# Altium integrated library TI Microcontroller MSP430 16-bit Ultra-Low Power.IntLib: 1463 symbols (part 2 of 130)
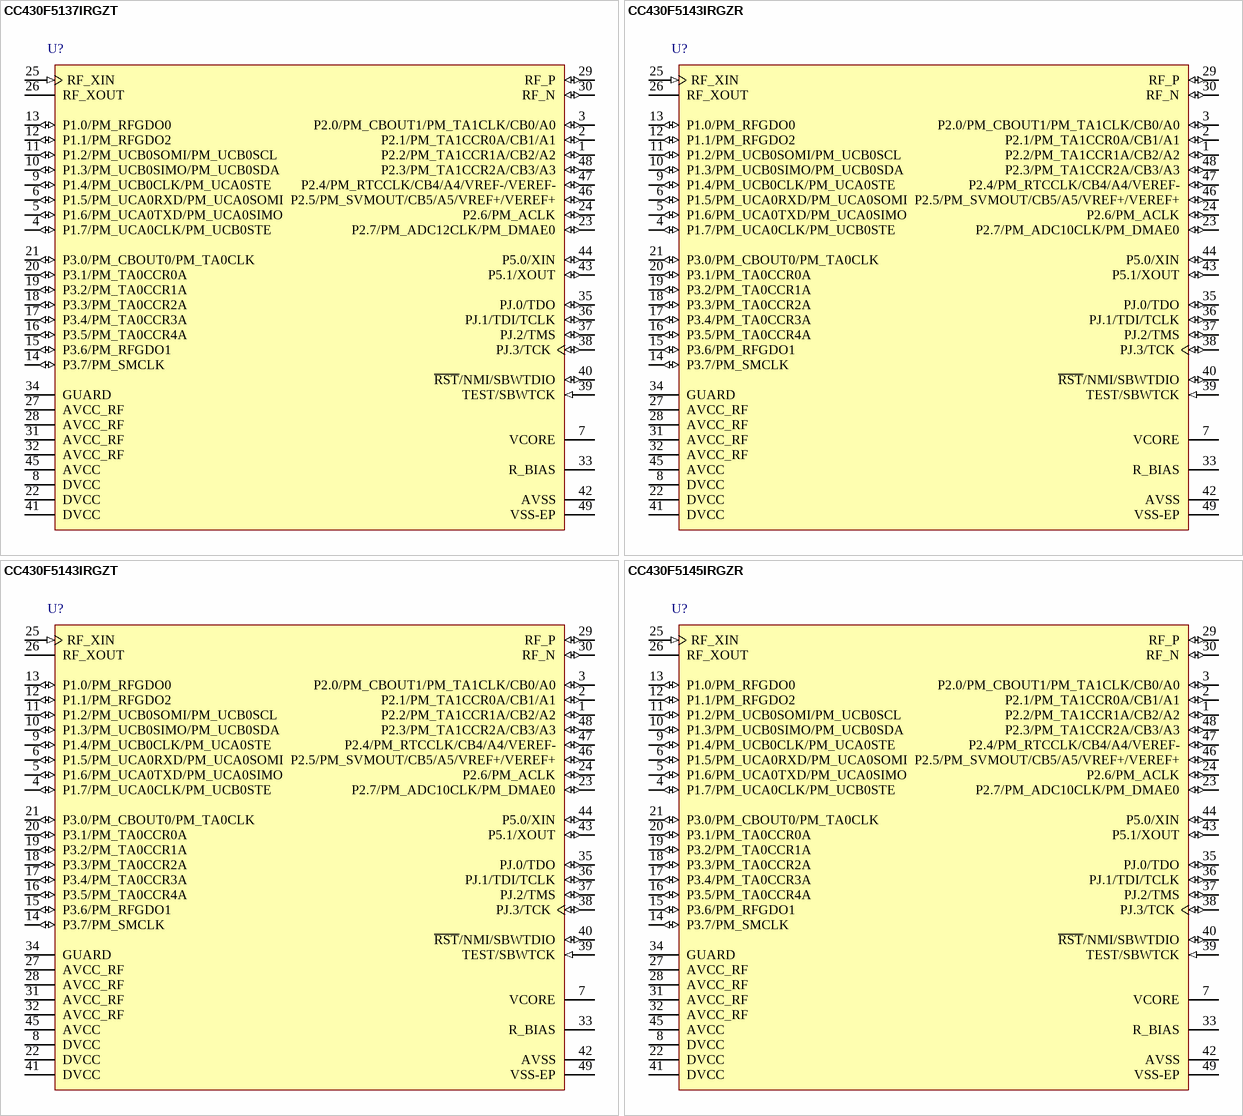
[diagram p104: symbols CC430F5137IRGZT to CC430F5145IRGZR]

## CC430F5143IRGZT
designator U?
20 MHz MSP430 SoC with RF Core with 8 KB Flash, 2048 B SRAM and 30 GPIOs, -40 to 85 degC, 48-pin QFN (RGZ), Green (RoHS & no Sb/Br); Manufacturer: Texas Instruments; PartNumber: CC430F5143IRGZT; ADC: Yes; ADC Channels: 6; DMA: 3; Flash(KB): 8; Frequency(MHz): 20; GPIO: 30; Multiplier: 32x32; SRAM(B): 2048; SubFamily: RF SoC Series; Timers - 16-bit: 2; USCI_A (UART/LIN/IrDA/SPI): 1; DatasheetVersion: SLAS555; PackageVersion: 4204101/F; PackageReference: RGZ48-4100X4100TP; PackageDescription: 48-Pin Plastic Flat Pack, Body 7 x 7 mm, Pitch 0.5 mm; Supplier 1: Digi-Key; Supplier Part Number 1: CC430F5143IRGZT-ND; Supplier 2: Newark; Supplier Part Number 2: 27W9342; Supplier 3: Mouser; Supplier Part Number 3: 595-CC430F5143IRGZT; Brown Out Reset: Yes; Comparators: Yes; Eco-Plan: Green (RoHS & no Sb/Br); Real-Time Clock: Yes; SVS: Yes; Temp Sensor: Yes; USCI_B (I2C & SPI): 1; Watchdog: Yes; Mounting Technology: Surface Mount; Code_JEDEC: MO-220; ComponentLink1Description: Manufacturer URL; ComponentLink1URL: http://www.ti.com/; ComponentLink2Description: Datasheet; ComponentLink2URL: http://www.ti.com/lit/ds/symlink/cc430f5143.pdf; ComponentLink3Description: Package Specification; ComponentLink3URL: http://www.ti.com/lit/ds/symlink/sn75dp139.pdf
footprint TI-RGZ48-4100X4100TP_N (QFN, 48-Leads, Body 7x7mm, Pitch 0.5mm, Thermal Pad 4.1x4.1mm, IPC Medium Density)
pins: 1 P2.2/PM_TA1CCR1A/CB2/A2 (io), 2 P2.1/PM_TA1CCR0A/CB1/A1 (io), 3 P2.0/PM_CBOUT1/PM_TA1CLK/CB0/A0 (io), 4 P1.7/PM_UCA0CLK/PM_UCB0STE (io), 5 P1.6/PM_UCA0TXD/PM_UCA0SIMO (io), 6 P1.5/PM_UCA0RXD/PM_UCA0SOMI (io), 7 VCORE "Regulated core power supply", 8 DVCC (power) "Digital power supply", 9 P1.4/PM_UCB0CLK/PM_UCA0STE (io), 10 P1.3/PM_UCB0SIMO/PM_UCB0SDA (io), 11 P1.2/PM_UCB0SOMI/PM_UCB0SCL (io), 12 P1.1/PM_RFGDO2 (io), 13 P1.0/PM_RFGDO0 (io), 14 P3.7/PM_SMCLK (io), 15 P3.6/PM_RFGDO1 (io), 16 P3.5/PM_TA0CCR4A (io), 17 P3.4/PM_TA0CCR3A (io), 18 P3.3/PM_TA0CCR2A (io), 19 P3.2/PM_TA0CCR1A (io), 20 P3.1/PM_TA0CCR0A (io), 21 P3.0/PM_CBOUT0/PM_TA0CLK (io), 22 DVCC (power) "Digital power supply", 23 P2.7/PM_ADC10CLK/PM_DMAE0 (io), 24 P2.6/PM_ACLK (io), 25 RF_XIN (in) "Input terminal for RF crystal oscillator, or external clock input", 26 RF_XOUT "Output terminal for RF crystal oscillator", 27 AVCC_RF (power) "Radio analog power supply", 28 AVCC_RF (power) "Radio analog power supply", 29 RF_P (io) "Positive RF input to LNA in receive mode Positive RF output from PA in transmit mode", 30 RF_N (io) "Negative RF input to LNA in receive mode Negative RF output from PA in transmit mode", 31 AVCC_RF (power) "Radio analog power supply", 32 AVCC_RF (power) "Radio analog power supply", 33 R_BIAS "External bias resistor for radio reference current", 34 GUARD (power) "Power supply connection for digital noise isolation", 35 PJ.0/TDO (io), 36 PJ.1/TDI/TCLK (io), 37 PJ.2/TMS (io), 38 PJ.3/TCK (io), 39 TEST/SBWTCK (in), 40 ~{RST}/NMI/SBWTDIO (io), 41 DVCC (power) "Digital power supply", 42 AVSS (power) "Analog ground supply for ADC10", 43 P5.1/XOUT (io), 44 P5.0/XIN (io), 45 AVCC (power) "Analog power supply", 46 P2.5/PM_SVMOUT/CB5/A5/VREF+/VEREF+ (io), 47 P2.4/PM_RTCCLK/CB4/A4/VEREF- (io), 48 P2.3/PM_TA1CCR2A/CB3/A3 (io), 49 VSS-EP "Ground supply The exposed die attach pad must be connected to a solid ground plane as this is the ground connection for the chip."

## CC430F5145IRGZR
designator U?
20 MHz MSP430 SoC with RF Core with 16 KB Flash, 2048 B SRAM and 30 GPIOs, -40 to 85 degC, 48-pin QFN (RGZ), Green (RoHS & no Sb/Br); Manufacturer: Texas Instruments; PartNumber: CC430F5145IRGZR; ADC: Yes; ADC Channels: 6; DMA: 3; Flash(KB): 16; Frequency(MHz): 20; GPIO: 30; Multiplier: 32x32; SRAM(B): 2048; SubFamily: RF SoC Series; Timers - 16-bit: 2; USCI_A (UART/LIN/IrDA/SPI): 1; DatasheetVersion: SLAS555; PackageVersion: 4204101/F; PackageReference: RGZ48-4100X4100TP; PackageDescription: 48-Pin Plastic Flat Pack, Body 7 x 7 mm, Pitch 0.5 mm; Supplier 1: Digi-Key; Supplier Part Number 1: CC430F5145IRGZR-ND; Supplier 2: Newark; Supplier Part Number 2: 27W9343; Supplier 3: Mouser; Supplier Part Number 3: 595-CC430F5145IRGZR; Brown Out Reset: Yes; Comparators: Yes; Eco-Plan: Green (RoHS & no Sb/Br); Real-Time Clock: Yes; SVS: Yes; Temp Sensor: Yes; USCI_B (I2C & SPI): 1; Watchdog: Yes; Mounting Technology: Surface Mount; Code_JEDEC: MO-220; ComponentLink1Description: Manufacturer URL; ComponentLink1URL: http://www.ti.com/; ComponentLink2Description: Datasheet; ComponentLink2URL: http://www.ti.com/lit/ds/symlink/cc430f5145.pdf; ComponentLink3Description: Package Specification; ComponentLink3URL: http://www.ti.com/lit/ds/symlink/sn75dp139.pdf
footprint TI-RGZ48-4100X4100TP_N (QFN, 48-Leads, Body 7x7mm, Pitch 0.5mm, Thermal Pad 4.1x4.1mm, IPC Medium Density)
pins: 1 P2.2/PM_TA1CCR1A/CB2/A2 (io), 2 P2.1/PM_TA1CCR0A/CB1/A1 (io), 3 P2.0/PM_CBOUT1/PM_TA1CLK/CB0/A0 (io), 4 P1.7/PM_UCA0CLK/PM_UCB0STE (io), 5 P1.6/PM_UCA0TXD/PM_UCA0SIMO (io), 6 P1.5/PM_UCA0RXD/PM_UCA0SOMI (io), 7 VCORE "Regulated core power supply", 8 DVCC (power) "Digital power supply", 9 P1.4/PM_UCB0CLK/PM_UCA0STE (io), 10 P1.3/PM_UCB0SIMO/PM_UCB0SDA (io), 11 P1.2/PM_UCB0SOMI/PM_UCB0SCL (io), 12 P1.1/PM_RFGDO2 (io), 13 P1.0/PM_RFGDO0 (io), 14 P3.7/PM_SMCLK (io), 15 P3.6/PM_RFGDO1 (io), 16 P3.5/PM_TA0CCR4A (io), 17 P3.4/PM_TA0CCR3A (io), 18 P3.3/PM_TA0CCR2A (io), 19 P3.2/PM_TA0CCR1A (io), 20 P3.1/PM_TA0CCR0A (io), 21 P3.0/PM_CBOUT0/PM_TA0CLK (io), 22 DVCC (power) "Digital power supply", 23 P2.7/PM_ADC10CLK/PM_DMAE0 (io), 24 P2.6/PM_ACLK (io), 25 RF_XIN (in) "Input terminal for RF crystal oscillator, or external clock input", 26 RF_XOUT "Output terminal for RF crystal oscillator", 27 AVCC_RF (power) "Radio analog power supply", 28 AVCC_RF (power) "Radio analog power supply", 29 RF_P (io) "Positive RF input to LNA in receive mode Positive RF output from PA in transmit mode", 30 RF_N (io) "Negative RF input to LNA in receive mode Negative RF output from PA in transmit mode", 31 AVCC_RF (power) "Radio analog power supply", 32 AVCC_RF (power) "Radio analog power supply", 33 R_BIAS "External bias resistor for radio reference current", 34 GUARD (power) "Power supply connection for digital noise isolation", 35 PJ.0/TDO (io), 36 PJ.1/TDI/TCLK (io), 37 PJ.2/TMS (io), 38 PJ.3/TCK (io), 39 TEST/SBWTCK (in), 40 ~{RST}/NMI/SBWTDIO (io), 41 DVCC (power) "Digital power supply", 42 AVSS (power) "Analog ground supply for ADC10", 43 P5.1/XOUT (io), 44 P5.0/XIN (io), 45 AVCC (power) "Analog power supply", 46 P2.5/PM_SVMOUT/CB5/A5/VREF+/VEREF+ (io), 47 P2.4/PM_RTCCLK/CB4/A4/VEREF- (io), 48 P2.3/PM_TA1CCR2A/CB3/A3 (io), 49 VSS-EP "Ground supply The exposed die attach pad must be connected to a solid ground plane as this is the ground connection for the chip."

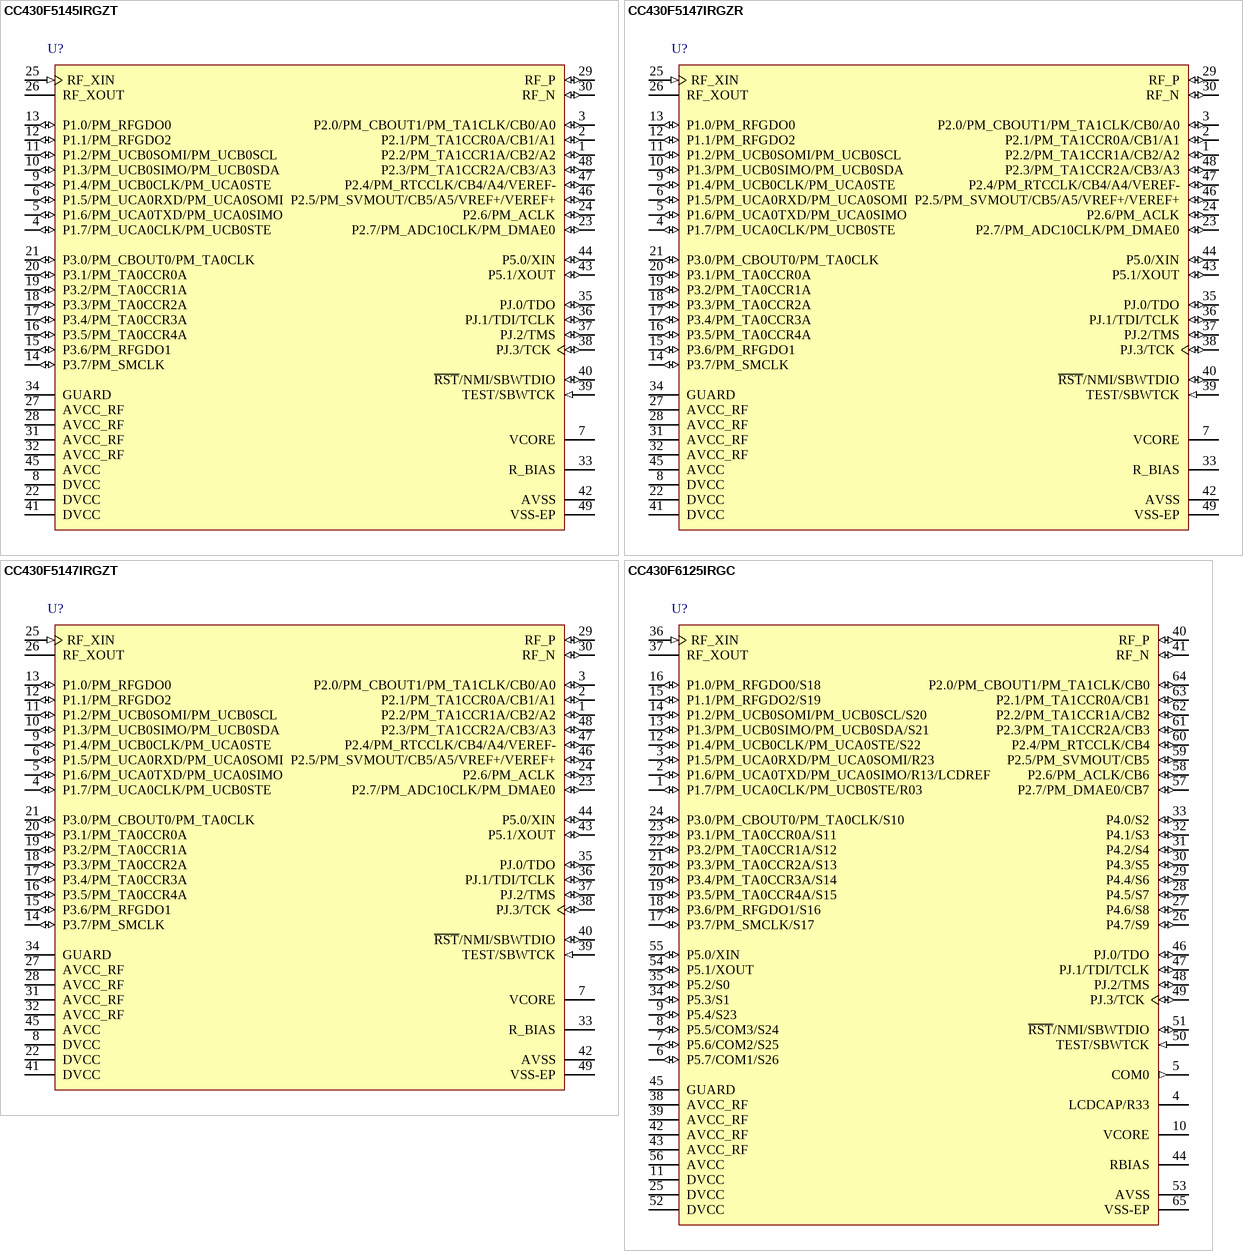
[diagram p4: symbols CC430F5145IRGZT to CC430F6125IRGC]

## CC430F5145IRGZT
designator U?
20 MHz MSP430 SoC with RF Core with 16 KB Flash, 2048 B SRAM and 30 GPIOs, -40 to 85 degC, 48-pin QFN (RGZ), Green (RoHS & no Sb/Br); Manufacturer: Texas Instruments; PartNumber: CC430F5145IRGZT; ADC: Yes; ADC Channels: 6; DMA: 3; Flash(KB): 16; Frequency(MHz): 20; GPIO: 30; Multiplier: 32x32; SRAM(B): 2048; SubFamily: RF SoC Series; Timers - 16-bit: 2; USCI_A (UART/LIN/IrDA/SPI): 1; DatasheetVersion: SLAS555; PackageVersion: 4204101/F; PackageReference: RGZ48-4100X4100TP; PackageDescription: 48-Pin Plastic Flat Pack, Body 7 x 7 mm, Pitch 0.5 mm; Supplier 1: Digi-Key; Supplier Part Number 1: CC430F5145IRGZT-ND; Supplier 2: Newark; Supplier Part Number 2: 27W9344; Supplier 3: Mouser; Supplier Part Number 3: 595-CC430F5145IRGZT; Brown Out Reset: Yes; Comparators: Yes; Eco-Plan: Green (RoHS & no Sb/Br); Real-Time Clock: Yes; SVS: Yes; Temp Sensor: Yes; USCI_B (I2C & SPI): 1; Watchdog: Yes; Mounting Technology: Surface Mount; Code_JEDEC: MO-220; ComponentLink1Description: Manufacturer URL; ComponentLink1URL: http://www.ti.com/; ComponentLink2Description: Datasheet; ComponentLink2URL: http://www.ti.com/lit/ds/symlink/cc430f5145.pdf; ComponentLink3Description: Package Specification; ComponentLink3URL: http://www.ti.com/lit/ds/symlink/sn75dp139.pdf
footprint TI-RGZ48-4100X4100TP_N (QFN, 48-Leads, Body 7x7mm, Pitch 0.5mm, Thermal Pad 4.1x4.1mm, IPC Medium Density)
pins: 1 P2.2/PM_TA1CCR1A/CB2/A2 (io), 2 P2.1/PM_TA1CCR0A/CB1/A1 (io), 3 P2.0/PM_CBOUT1/PM_TA1CLK/CB0/A0 (io), 4 P1.7/PM_UCA0CLK/PM_UCB0STE (io), 5 P1.6/PM_UCA0TXD/PM_UCA0SIMO (io), 6 P1.5/PM_UCA0RXD/PM_UCA0SOMI (io), 7 VCORE "Regulated core power supply", 8 DVCC (power) "Digital power supply", 9 P1.4/PM_UCB0CLK/PM_UCA0STE (io), 10 P1.3/PM_UCB0SIMO/PM_UCB0SDA (io), 11 P1.2/PM_UCB0SOMI/PM_UCB0SCL (io), 12 P1.1/PM_RFGDO2 (io), 13 P1.0/PM_RFGDO0 (io), 14 P3.7/PM_SMCLK (io), 15 P3.6/PM_RFGDO1 (io), 16 P3.5/PM_TA0CCR4A (io), 17 P3.4/PM_TA0CCR3A (io), 18 P3.3/PM_TA0CCR2A (io), 19 P3.2/PM_TA0CCR1A (io), 20 P3.1/PM_TA0CCR0A (io), 21 P3.0/PM_CBOUT0/PM_TA0CLK (io), 22 DVCC (power) "Digital power supply", 23 P2.7/PM_ADC10CLK/PM_DMAE0 (io), 24 P2.6/PM_ACLK (io), 25 RF_XIN (in) "Input terminal for RF crystal oscillator, or external clock input", 26 RF_XOUT "Output terminal for RF crystal oscillator", 27 AVCC_RF (power) "Radio analog power supply", 28 AVCC_RF (power) "Radio analog power supply", 29 RF_P (io) "Positive RF input to LNA in receive mode Positive RF output from PA in transmit mode", 30 RF_N (io) "Negative RF input to LNA in receive mode Negative RF output from PA in transmit mode", 31 AVCC_RF (power) "Radio analog power supply", 32 AVCC_RF (power) "Radio analog power supply", 33 R_BIAS "External bias resistor for radio reference current", 34 GUARD (power) "Power supply connection for digital noise isolation", 35 PJ.0/TDO (io), 36 PJ.1/TDI/TCLK (io), 37 PJ.2/TMS (io), 38 PJ.3/TCK (io), 39 TEST/SBWTCK (in), 40 ~{RST}/NMI/SBWTDIO (io), 41 DVCC (power) "Digital power supply", 42 AVSS (power) "Analog ground supply for ADC10", 43 P5.1/XOUT (io), 44 P5.0/XIN (io), 45 AVCC (power) "Analog power supply", 46 P2.5/PM_SVMOUT/CB5/A5/VREF+/VEREF+ (io), 47 P2.4/PM_RTCCLK/CB4/A4/VEREF- (io), 48 P2.3/PM_TA1CCR2A/CB3/A3 (io), 49 VSS-EP "Ground supply The exposed die attach pad must be connected to a solid ground plane as this is the ground connection for the chip."

## CC430F5147IRGZR
designator U?
20 MHz MSP430 SoC with RF Core with 32 KB Flash, 4096 B SRAM and 30 GPIOs, -40 to 85 degC, 48-pin QFN (RGZ), Green (RoHS & no Sb/Br); Manufacturer: Texas Instruments; PartNumber: CC430F5147IRGZR; ADC: Yes; ADC Channels: 6; DMA: 3; Flash(KB): 32; Frequency(MHz): 20; GPIO: 30; Multiplier: 32x32; SRAM(B): 4096; SubFamily: RF SoC Series; Timers - 16-bit: 2; USCI_A (UART/LIN/IrDA/SPI): 1; DatasheetVersion: SLAS555; PackageVersion: 4204101/F; PackageReference: RGZ48-4100X4100TP; PackageDescription: 48-Pin Plastic Flat Pack, Body 7 x 7 mm, Pitch 0.5 mm; Supplier 1: Digi-Key; Supplier Part Number 1: CC430F5147IRGZR-ND; Supplier 2: Newark; Supplier Part Number 2: 94T0503; Supplier 3: Mouser; Supplier Part Number 3: 595-CC430F5147IRGZR; Brown Out Reset: Yes; Comparators: Yes; Eco-Plan: Green (RoHS & no Sb/Br); Real-Time Clock: Yes; SVS: Yes; Temp Sensor: Yes; USCI_B (I2C & SPI): 1; Watchdog: Yes; Mounting Technology: Surface Mount; Code_JEDEC: MO-220; ComponentLink1Description: Manufacturer URL; ComponentLink1URL: http://www.ti.com/; ComponentLink2Description: Datasheet; ComponentLink2URL: http://www.ti.com/lit/ds/symlink/cc430f5147.pdf; ComponentLink3Description: Package Specification; ComponentLink3URL: http://www.ti.com/lit/ds/symlink/sn75dp139.pdf
footprint TI-RGZ48-4100X4100TP_N (QFN, 48-Leads, Body 7x7mm, Pitch 0.5mm, Thermal Pad 4.1x4.1mm, IPC Medium Density)
pins: 1 P2.2/PM_TA1CCR1A/CB2/A2 (io), 2 P2.1/PM_TA1CCR0A/CB1/A1 (io), 3 P2.0/PM_CBOUT1/PM_TA1CLK/CB0/A0 (io), 4 P1.7/PM_UCA0CLK/PM_UCB0STE (io), 5 P1.6/PM_UCA0TXD/PM_UCA0SIMO (io), 6 P1.5/PM_UCA0RXD/PM_UCA0SOMI (io), 7 VCORE "Regulated core power supply", 8 DVCC (power) "Digital power supply", 9 P1.4/PM_UCB0CLK/PM_UCA0STE (io), 10 P1.3/PM_UCB0SIMO/PM_UCB0SDA (io), 11 P1.2/PM_UCB0SOMI/PM_UCB0SCL (io), 12 P1.1/PM_RFGDO2 (io), 13 P1.0/PM_RFGDO0 (io), 14 P3.7/PM_SMCLK (io), 15 P3.6/PM_RFGDO1 (io), 16 P3.5/PM_TA0CCR4A (io), 17 P3.4/PM_TA0CCR3A (io), 18 P3.3/PM_TA0CCR2A (io), 19 P3.2/PM_TA0CCR1A (io), 20 P3.1/PM_TA0CCR0A (io), 21 P3.0/PM_CBOUT0/PM_TA0CLK (io), 22 DVCC (power) "Digital power supply", 23 P2.7/PM_ADC10CLK/PM_DMAE0 (io), 24 P2.6/PM_ACLK (io), 25 RF_XIN (in) "Input terminal for RF crystal oscillator or external clock input", 26 RF_XOUT "Output terminal for RF crystal oscillator", 27 AVCC_RF (power) "Radio analog power supply", 28 AVCC_RF (power) "Radio analog power supply", 29 RF_P (io) "Positive RF input to LNA in receive mode Positive RF output from PA in transmit mode", 30 RF_N (io) "Negative RF input to LNA in receive mode Negative RF output from PA in transmit mode", 31 AVCC_RF (power) "Radio analog power supply", 32 AVCC_RF (power) "Radio analog power supply", 33 R_BIAS "External bias resistor for radio reference current", 34 GUARD (power) "Power supply connection for digital noise isolation", 35 PJ.0/TDO (io), 36 PJ.1/TDI/TCLK (io), 37 PJ.2/TMS (io), 38 PJ.3/TCK (io), 39 TEST/SBWTCK (in), 40 ~{RST}/NMI/SBWTDIO (io), 41 DVCC (power) "Digital power supply", 42 AVSS (power) "Analog ground supply for ADC10", 43 P5.1/XOUT (io), 44 P5.0/XIN (io), 45 AVCC (power) "Analog power supply", 46 P2.5/PM_SVMOUT/CB5/A5/VREF+/VEREF+ (io), 47 P2.4/PM_RTCCLK/CB4/A4/VEREF- (io), 48 P2.3/PM_TA1CCR2A/CB3/A3 (io), 49 VSS-EP (power) "Ground supply.The exposed die attach pad must be connected to a solid ground plane as this is the ground connection for the chip."

## CC430F5147IRGZT
designator U?
20 MHz MSP430 SoC with RF Core with 32 KB Flash, 4096 B SRAM and 30 GPIOs, -40 to 85 degC, 48-pin QFN (RGZ), Green (RoHS & no Sb/Br); Manufacturer: Texas Instruments; PartNumber: CC430F5147IRGZT; ADC: Yes; ADC Channels: 6; DMA: 3; Flash(KB): 32; Frequency(MHz): 20; GPIO: 30; Multiplier: 32x32; SRAM(B): 4096; SubFamily: RF SoC Series; Timers - 16-bit: 2; USCI_A (UART/LIN/IrDA/SPI): 1; DatasheetVersion: SLAS555; PackageVersion: 4204101/F; PackageReference: RGZ48-4100X4100TP; PackageDescription: 48-Pin Plastic Flat Pack, Body 7 x 7 mm, Pitch 0.5 mm; Supplier 1: Digi-Key; Supplier Part Number 1: CC430F5147IRGZT-ND; Supplier 2: Newark; Supplier Part Number 2: 27W9345; Supplier 3: Mouser; Supplier Part Number 3: 595-CC430F5147IRGZT; Brown Out Reset: Yes; Comparators: Yes; Eco-Plan: Green (RoHS & no Sb/Br); Real-Time Clock: Yes; SVS: Yes; Temp Sensor: Yes; USCI_B (I2C & SPI): 1; Watchdog: Yes; Mounting Technology: Surface Mount; Code_JEDEC: MO-220; ComponentLink1Description: Manufacturer URL; ComponentLink1URL: http://www.ti.com/; ComponentLink2Description: Datasheet; ComponentLink2URL: http://www.ti.com/lit/ds/symlink/cc430f5147.pdf; ComponentLink3Description: Package Specification; ComponentLink3URL: http://www.ti.com/lit/ds/symlink/sn75dp139.pdf
footprint TI-RGZ48-4100X4100TP_N (QFN, 48-Leads, Body 7x7mm, Pitch 0.5mm, Thermal Pad 4.1x4.1mm, IPC Medium Density)
pins: 1 P2.2/PM_TA1CCR1A/CB2/A2 (io), 2 P2.1/PM_TA1CCR0A/CB1/A1 (io), 3 P2.0/PM_CBOUT1/PM_TA1CLK/CB0/A0 (io), 4 P1.7/PM_UCA0CLK/PM_UCB0STE (io), 5 P1.6/PM_UCA0TXD/PM_UCA0SIMO (io), 6 P1.5/PM_UCA0RXD/PM_UCA0SOMI (io), 7 VCORE "Regulated core power supply", 8 DVCC (power) "Digital power supply", 9 P1.4/PM_UCB0CLK/PM_UCA0STE (io), 10 P1.3/PM_UCB0SIMO/PM_UCB0SDA (io), 11 P1.2/PM_UCB0SOMI/PM_UCB0SCL (io), 12 P1.1/PM_RFGDO2 (io), 13 P1.0/PM_RFGDO0 (io), 14 P3.7/PM_SMCLK (io), 15 P3.6/PM_RFGDO1 (io), 16 P3.5/PM_TA0CCR4A (io), 17 P3.4/PM_TA0CCR3A (io), 18 P3.3/PM_TA0CCR2A (io), 19 P3.2/PM_TA0CCR1A (io), 20 P3.1/PM_TA0CCR0A (io), 21 P3.0/PM_CBOUT0/PM_TA0CLK (io), 22 DVCC (power) "Digital power supply", 23 P2.7/PM_ADC10CLK/PM_DMAE0 (io), 24 P2.6/PM_ACLK (io), 25 RF_XIN (in) "Input terminal for RF crystal oscillator or external clock input", 26 RF_XOUT "Output terminal for RF crystal oscillator", 27 AVCC_RF (power) "Radio analog power supply", 28 AVCC_RF (power) "Radio analog power supply", 29 RF_P (io) "Positive RF input to LNA in receive mode Positive RF output from PA in transmit mode", 30 RF_N (io) "Negative RF input to LNA in receive mode Negative RF output from PA in transmit mode", 31 AVCC_RF (power) "Radio analog power supply", 32 AVCC_RF (power) "Radio analog power supply", 33 R_BIAS "External bias resistor for radio reference current", 34 GUARD (power) "Power supply connection for digital noise isolation", 35 PJ.0/TDO (io), 36 PJ.1/TDI/TCLK (io), 37 PJ.2/TMS (io), 38 PJ.3/TCK (io), 39 TEST/SBWTCK (in), 40 ~{RST}/NMI/SBWTDIO (io), 41 DVCC (power) "Digital power supply", 42 AVSS (power) "Analog ground supply for ADC10", 43 P5.1/XOUT (io), 44 P5.0/XIN (io), 45 AVCC (power) "Analog power supply", 46 P2.5/PM_SVMOUT/CB5/A5/VREF+/VEREF+ (io), 47 P2.4/PM_RTCCLK/CB4/A4/VEREF- (io), 48 P2.3/PM_TA1CCR2A/CB3/A3 (io), 49 VSS-EP (power) "Ground supply.The exposed die attach pad must be connected to a solid ground plane as this is the ground connection for the chip."